# EAGLE library part 10SEG_RG_LED_BARGRAPH (library 10SEG_RG_LED_BARGRAPH)
10 Segment Red/Green LED Bargraph https://item.taobao.com/item.htm?id=10857969173
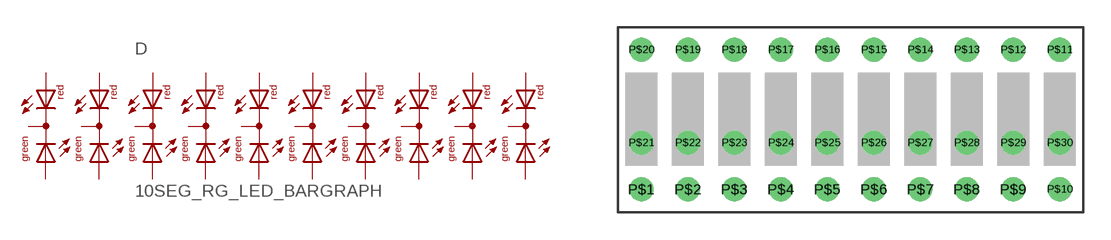
[diagram p0: symbol with the pads of 10SEG_RG_LED_BARGRAPH; footprint 10SEG_RG_LED_BARGRAPH]

Designator prefix D

## 10SEG_RG_LED_BARGRAPH  [10SEG_RG_LED_BARGRAPH]
P$1  AR0  pas
P$2  AR1  pas
P$3  AR2  pas
P$4  AR3  pas
P$5  AR4  pas
P$6  AR5  pas
P$7  AR6  pas
P$8  AR7  pas
P$9  AR8  pas
P$10  AR9  pas
P$11  AG9  pas
P$12  AG8  pas
P$13  AG7  pas
P$14  AG6  pas
P$15  AG5  pas
P$16  AG4  pas
P$17  AG3  pas
P$18  AG2  pas
P$19  AG1  pas
P$20  AG0  pas
P$21  C0  pas
P$22  C1  pas
P$23  C2  pas
P$24  C3  pas
P$25  C4  pas
P$26  C5  pas
P$27  C6  pas
P$28  C7  pas
P$29  C8  pas
P$30  C9  pas

## Footprint 10SEG_RG_LED_BARGRAPH (pad centres in mm)
drill 0.8: P$1 1.27,1.27; P$2 3.81,1.27; P$3 6.35,1.27; P$4 8.89,1.27; P$5 11.43,1.27; P$6 13.97,1.27; P$7 16.51,1.27; P$8 19.05,1.27; P$9 21.59,1.27; P$10 24.13,1.27; P$11 24.13,8.89; P$12 21.59,8.89; P$13 19.05,8.89; P$14 16.51,8.89; P$15 13.97,8.89; P$16 11.43,8.89; P$17 8.89,8.89; P$18 6.35,8.89; P$19 3.81,8.89; P$20 1.27,8.89; P$21 1.27,3.81; P$22 3.81,3.81; P$23 6.35,3.81; P$24 8.89,3.81; P$25 11.43,3.81; P$26 13.97,3.81; P$27 16.51,3.81; P$28 19.05,3.81; P$29 21.59,3.81; P$30 24.13,3.81